# Altium schematic symbol library DIODE.SchLib: 2 symbols
Pins are listed as number, name and electrical type; pins without a type are passive.

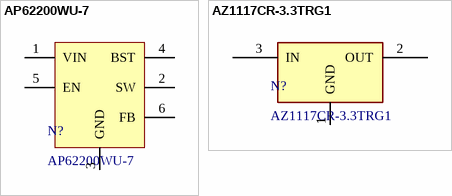
[diagram p0: symbols AP62200WU-7 to AZ1117CR-3.3TRG1]

## AP62200WU-7
designator N?
Buck Switching Regulator IC Positive Adjustable 0.8V 1 Output 2A SOT-23-6 Thin, TSOT-23-6; Supplier 1: Digi-Key; Supplier Part Number 1: 31-AP62200WU-7CT-ND
pins: 1 VIN (power), 2 SW (power), 3 GND (power), 4 BST (power), 5 EN (power), 6 FB (power)

## AZ1117CR-3.3TRG1
designator N?
IC REG LINEAR 3.3V 1A SOT89; Supplier 1: Digi-Key; Supplier Part Number 1: AZ1117CR-3.3TRG1DICT-ND
pins: 1 GND, 2 OUT, 3 IN